# Altium schematic symbol library FDN5632N-F085.SchLib: 1 symbol
Pins are listed as number, name and electrical type; pins without a type are passive.

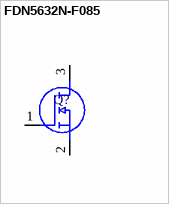
[diagram p0: symbol FDN5632N-F085]

## FDN5632N-F085
designator Q?
MOSFET Trans MOS N-Ch 60V 1.7A; Manufacturer_Name: onsemi; Geometry.Height: 1.22mm; Mouser Part Number: 512-FDN5632N-F085; Mouser Price/Stock: https://www.mouser.co.uk/ProductDetail/ON-Semiconductor-Fairchild/FDN5632N-F085?qs=THZS4U49PK5JFq8XNv2RZA%3D%3D; Manufacturer_Part_Number: FDN5632N-F085; Datasheet Link: https://www.onsemi.com/pub/Collateral/FDN5632N_F085-D.PDF
footprint SOT95P237X122-3N
pins: 1 G, 2 S, 3 D